# Altium schematic symbol library sch_comp.SchLib: 8 symbols
Pins are listed as number, name and electrical type; pins without a type are passive.

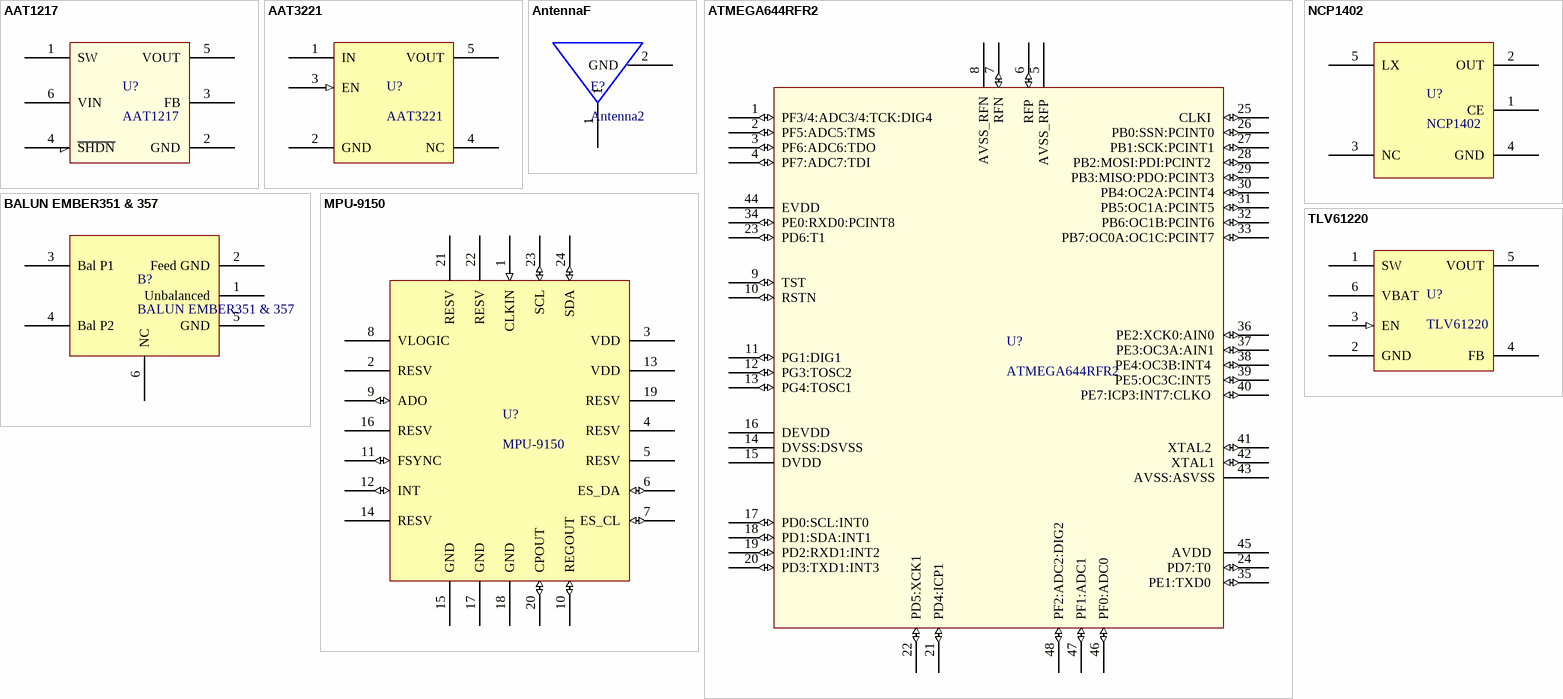
[diagram p0: symbols AAT1217 to TLV61220]

## AAT1217
designator U?
footprint SOT26A-6AL (SOT23, 6-Leads, Body 2.9x1.6mm, Pitch 0.95mm, Lead Span 2.5mm, IPC High Density)
pins: 1 SW (power), 2 GND (power), 3 FB, 4 ~{SHDN}, 5 VOUT (power), 6 VIN (power)

## AAT3221
designator U?
IC REG LDO 1.8V 0.15A SOT23-5
footprint SOT23-5BL (SOT23, 5-Leads, Body 2.9x1.6mm, Pitch 0.95mm, Lead Span 2.8mm, IPC High Density)
pins: 1 IN (power) "Input pin", 2 GND (power) "Ground connection pin", 3 EN  (in) "Enable input", 4 NC "Not Connected", 5 VOUT (power) "Boost converter output"

## AntennaF
designator E?, comment Antenna2
Antenna 2.4GHz
footprint ANTENNA (2.4 GHz Inverted F Antenna)
pins: 1, 2 GND

## ATMEGA644RFR2
designator U?
uC  de 8 bits con Zigbee
footprint QFN50P700X700-48V4M (QFN, 48-Leads, Body 7x7mm, Pitch 0.5mm, IPC Low Density)
footprint Quad48
pins: 1 PF3/4:ADC3/4:TCK:DIG4 (io), 2 PF5:ADC5:TMS (io), 3 PF6:ADC6:TDO (io), 4 PF7:ADC7:TDI (io), 5 AVSS_RFP  (power), 6 RFP  (io), 7 RFN (io), 8 AVSS_RFN (power), 9 TST (io), 10 RSTN  (io), 11 PG1:DIG1  (io), 12 PG3:TOSC2 (io), 13 PG4:TOSC1 (io), 14 DVSS:DSVSS (power), 15 DVDD (power), 16 DEVDD (power), 17 PD0:SCL:INT0 (io), 18 PD1:SDA:INT1 (io), 19 PD2:RXD1:INT2 (io), 20 PD3:TXD1:INT3 (io), 21 PD4:ICP1 (io), 22 PD5:XCK1  (io), 23 PD6:T1 (io), 24 PD7:T0  (io), 25 CLKI  (io), 26 PB0:SSN:PCINT0 (io), 27 PB1:SCK:PCINT1 (io), 28 PB2:MOSI:PDI:PCINT2  (io), 29 PB3:MISO:PDO:PCINT3 (io), 30 PB4:OC2A:PCINT4 (io), 31 PB5:OC1A:PCINT5 (io), 32 PB6:OC1B:PCINT6 (io), 33 PB7:OC0A:OC1C:PCINT7 (io), 34 PE0:RXD0:PCINT8  (io), 35 PE1:TXD0  (io), 36 PE2:XCK0:AIN0 (io), 37 PE3:OC3A:AIN1 (io), 38 PE4:OC3B:INT4  (io), 39 PE5:OC3C:INT5  (io), 40 PE7:ICP3:INT7:CLKO  (io), 41 XTAL2  (io), 42 XTAL1 (io), 43 AVSS:ASVSS (power), 44 EVDD (power), 45 AVDD  (power), 46 PF0:ADC0  (io), 47 PF1:ADC1  (io), 48 PF2:ADC2:DIG2  (io)

## BALUN EMBER351 & 357
designator B?
footprint Balun
pins: 1 Unbalanced "50 Ohm single ended", 2 Feed GND (power) "Ground", 3 Bal P1 "Balanced port 1", 4 Bal P2 "Balanced port 2", 5 GND (power), 6 NC "Not connected"

## MPU-9150
designator U?
Integrated 9-axis MotionTracking device
footprint QFP-24
pins: 1 CLKIN (in), 2 RESV, 3 VDD (power), 4 RESV, 5 RESV, 6 ES_DA (io), 7 ES_CL (io), 8 VLOGIC (power), 9 ADO (io), 10 REGOUT (io), 11 FSYNC (io), 12 INT (io), 13 VDD (power), 14 RESV, 15 GND (power), 16 RESV, 17 GND (power), 18 GND (power), 19 RESV, 20 CPOUT (io), 21 RESV, 22 RESV, 23 SCL (io), 24 SDA (io)

## NCP1402
designator U?
200 mA, PFM Step-Up  Micropower Switching  Regulator
footprint SOT23-5BN (SOT23, 5-Leads, Body 2.9x1.6mm, Pitch 0.95mm, Lead Span 2.8mm, IPC Medium Density)
pins: 1 CE, 2 OUT, 3 NC, 4 GND, 5 LX

## TLV61220
designator U?
LOW INPUT VOLTAGE STEP-UP CONVERTER IN THIN SOT-23 PACKAGE
footprint SOT26A-6N (SOT23, 6-Leads, Body 2.9x1.7mm, Pitch 0.95mm, Lead Span 2.8mm, IPC Medium Density)
pins: 1 SW "Boost and rectifying switch input", 2 GND (power) "IC ground connection for logic and power", 3 EN  (in) "Enable input (VBAT enabled, GND disabled)", 4 FB "I Voltage feedback for programming the output voltage", 5 VOUT (power) "Boost converter output", 6 VBAT (power) "Supply voltage"